# Altium footprint library M55342E11B100BRT5.PcbLib: 2 footprints
Each footprint in its own frame and in the unit in brackets; x right, y up, seen from the top. Pads: shape width x height; smd on the part's side, far side on the other; paste and mask are expansions set on the pad; w line width, h text height; cw(c..) or ccw(c..) is an arc to the next point about the centre after c.
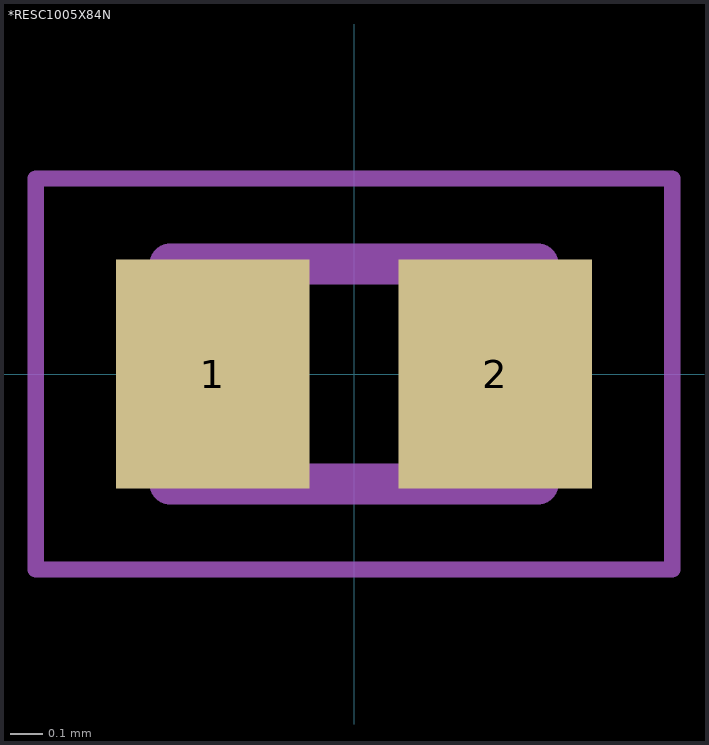
[diagram p0: the footprints below, top view; thin cyan lines are the x and y axes]

## *RESC1005X84N [mm]
pads (2):
  rect 0.6x0.71 smd: 1(-0.437,0) 2(0.437,0)
Mechanical 4:
  lines w0.127: -0.57,-0.34 -0.57,0.34 ; -0.57,-0.34 0.57,-0.34 ; -0.57,-0.34 -0.57,0.34 ; -0.57,-0.34 0.57,-0.34 ; -0.57,0.34 0.57,0.34 ; -0.57,0.34 0.57,0.34 ; 0.57,-0.34 0.57,0.34 ; 0.57,-0.34 0.57,0.34
Mechanical 16:
  lines w0.05: -0.985,-0.605 -0.985,0.605 0.985,0.605 0.985,-0.605 -0.985,-0.605

## PCBComponent_1 [mm]